# Altium footprint library SMA.PcbLib: 13 footprints
Each footprint in its own frame and in the unit in brackets; x right, y up, seen from the top. Pads: shape width x height; smd on the part's side, far side on the other; paste and mask are expansions set on the pad; w line width, h text height; cw(c..) or ccw(c..) is an arc to the next point about the centre after c.
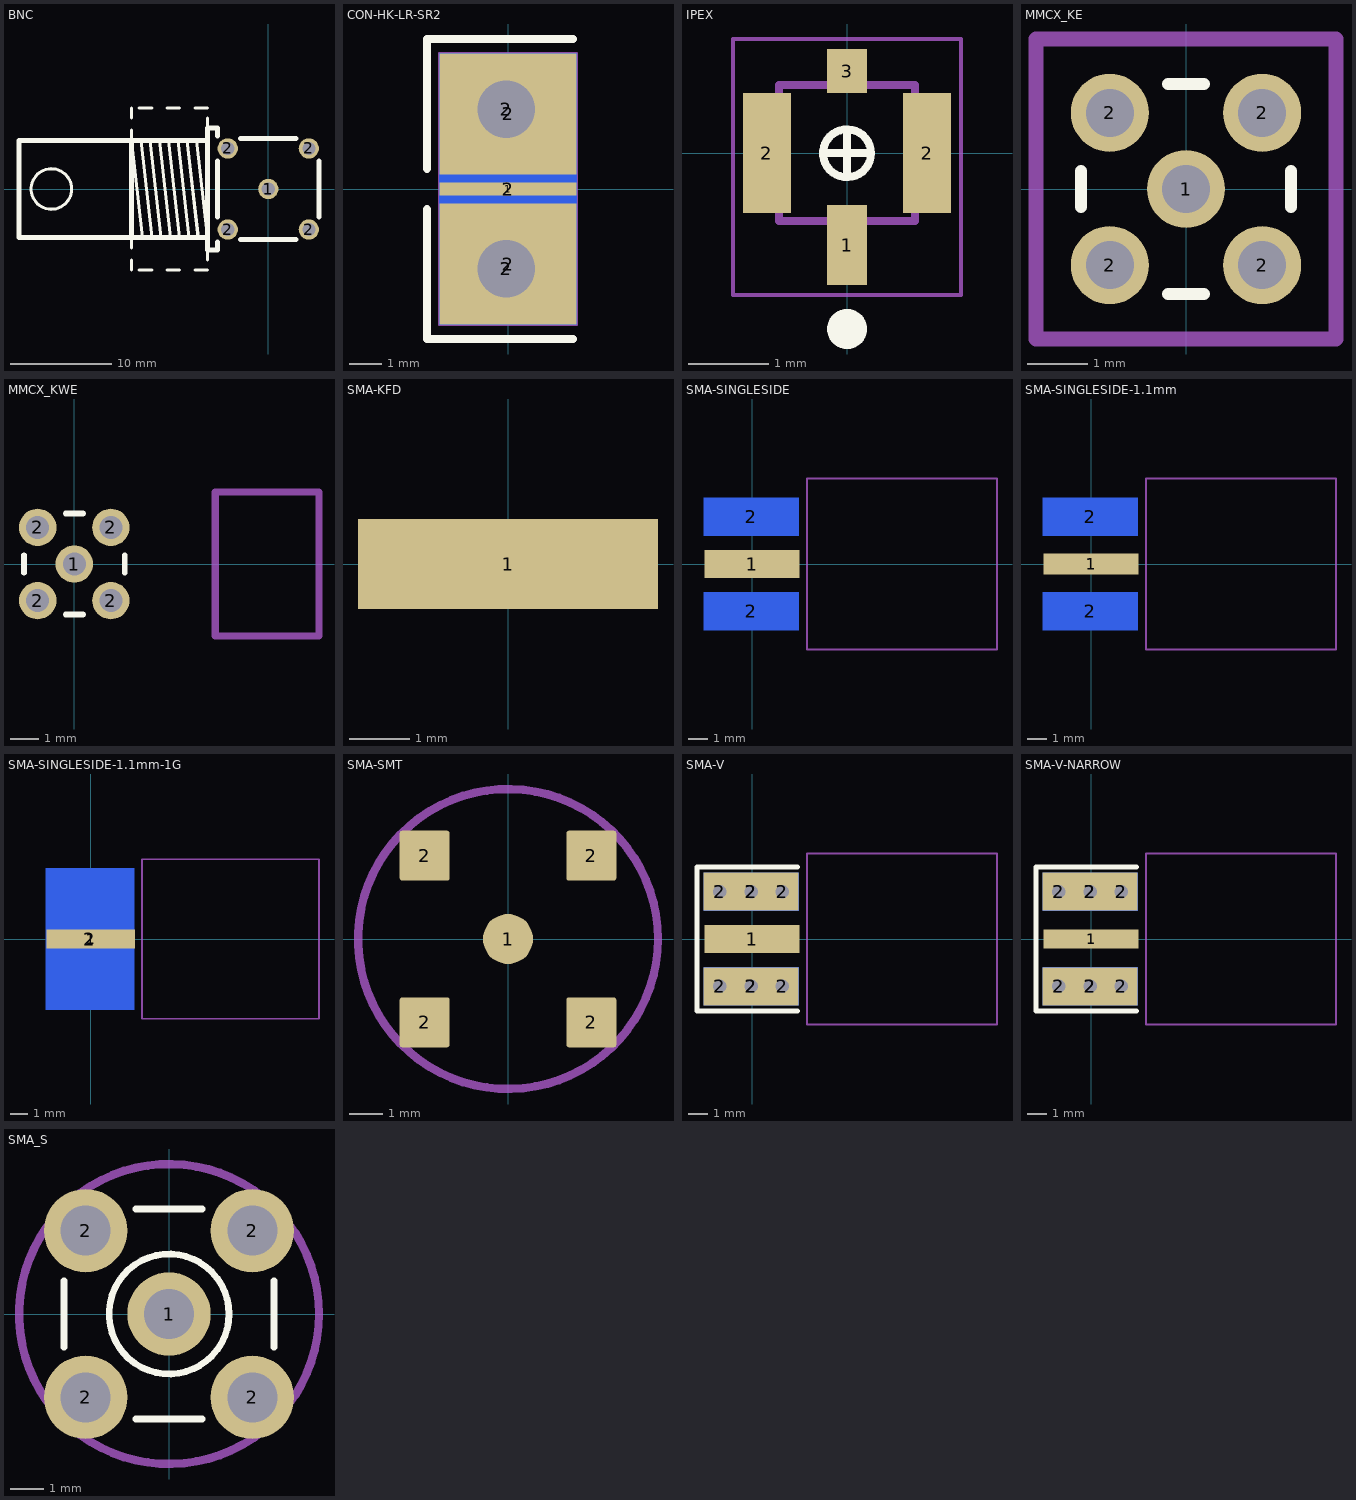
[diagram p0: the footprints below, top view; thin cyan lines are the x and y axes]

## BNC [mm] "Connector; BNC Elbow"
height 16
pads (5):
  round 2 hole 1.3: 1(0,0) 2(-4,-4) 2(-4,4) 2(4,-4) 2(4,4)
Top Overlay:
  circle w0.3: c-21.4,0 r2
  lines w0.3: -13.5,-8 -13.5,-7 ; -13.5,-5.8 -13.5,-4.8 ; -13.5,5.8 -13.5,4.8 -12.4,-4.8 ; -13.5,7 -13.5,8 ; -12.75,-8 -11.5,-8 ; -12.75,8 -11.5,8 ; -12.586,4.8 -11.486,-4.8 ; -11.671,4.8 -10.571,-4.8 ; -10.757,4.8 -9.657,-4.8 ; -10,-8 -8.75,-8 ; -10,8 -8.75,8 ; -9.843,4.8 -8.743,-4.8 ; -8.929,4.8 -7.829,-4.8 ; -8.014,4.8 -6.914,-4.8 ; -7.25,-8 -6,-8 ; -7.25,8 -6,8 ; -7.1,4.8 -6,-4.8 ; -6,-7 -6,-6 ; -6,6 -6,7
  lines w0.5: -13.5,-4.8 -13.5,4.8 ; -6,-4.8 -24.6,-4.8 -24.6,4.8 -6,4.8 ; -5,-5.25 -5,-6 -6,-6 -6,6 -5,6 -5,5.25 ; -5,-2.75 -5,2.75 ; -2.75,-5 2.75,-5 ; -2.75,5 2.75,5 ; 5,-2.75 5,2.75
3D body: height 0, standoff -4, extent -0.595,-0.599 0.6,0.599
3D body: height 0, standoff -4, extent 3.405,-4.599 4.6,-3.401
3D body: height 0, standoff -4, extent -4.595,-4.599 -3.4,-3.401
3D body: height 0, standoff -4, extent -4.595,3.401 -3.4,4.599
3D body: height 0, standoff -4, extent 3.405,3.401 4.6,4.599
3D body: height 13.2, standoff 1.2, extent -6,-6 -5,6
3D body: height 12, standoff 2.4, extent -24.6,-4.797 -5.1,4.797
3D body: height 12, standoff 0, extent -5,-5 5,5
3D body: height 12.7, standoff 1.7, extent -23.4,-2 -19.4,2

## CON-HK-LR-SR2 [mm]
pads (6):
  rect 4.3x0.406 smd: 1(0,0)
  round 1.8 hole 1.8: 2(-0.05,-2.5) 2(-0.05,2.5)
  rect 4.3x3.8 smd: 2(0,-2.35) 2(0,2.35)
  rect 4.3x8.5 smd far side: 2(0,0)
Top Overlay:
  lines w0.254: -2.54,-0.635 -2.54,-4.699 2.032,-4.699 ; -2.54,0.635 -2.54,4.699 2.032,4.699
Mechanical 13:
  lines w0.076: -2.15,-4.25 2.15,-4.25 2.15,4.25 -2.15,4.25 -2.15,-4.25

## IPEX [mm] "Hand Drawn, 4-Leads, Body 1.7x1.7mm"
height 0.85
pads (4):
  rect 0.5x1 smd: 1(0,-1.15)
  rect 0.6x1.5 smd: 2(-1,0) 2(1,0)
  rect 0.5x0.55 smd: 3(0,1.025)
Top Overlay:
  circle w0.1: c0,-0.003 r0.3
  circle w0.25: c0,-2.2 r0.125
  lines w0.1: -0.25,0 0.25,0 ; 0,-0.25 0,0.25
Mechanical 13:
  lines w0.1: -0.85,-0.85 0.85,-0.85 0.85,0.85 -0.85,0.85 -0.85,-0.85
Mechanical 15:
  lines w0.05: -1.425,-1.775 1.425,-1.775 1.425,1.425 -1.425,1.425 -1.425,-1.775
  lines w0.1: -0.25,0 0.25,0 ; 0,-0.25 0,0.25
3D body: height 0.85, standoff 0, extent -0.85,-0.85 0.85,0.85

## MMCX_KE [mm]
pads (5):
  round 1.3 hole 0.8: 1(0,0) 2(-1.27,-1.27) 2(-1.27,1.27) 2(1.27,-1.27) 2(1.27,1.27)
Top Overlay:
  lines w0.2: -1.75,-0.3 -1.75,0.3 ; -0.3,-1.75 0.3,-1.75 ; -0.3,1.75 0.3,1.75 ; 1.75,-0.3 1.75,0.3
Mechanical 13:
  lines w0.254: -2.5,-2.5 2.5,-2.5 2.5,2.5 -2.5,2.5 -2.5,-2.5
3D body: height 0, standoff -3, extent 1.02,-1.52 1.52,-1.02
3D body: height 0, standoff -3, extent -1.52,-1.52 -1.02,-1.02
3D body: height 0, standoff -3, extent 1.02,1.02 1.52,1.52
3D body: height 0, standoff -3, extent -0.25,-0.25 0.25,0.25
3D body: height 0, standoff -3, extent -1.52,1.02 -1.02,1.52
3D body: height 4.5, standoff 0.5, extent -1.75,-1.75 1.75,1.75
3D body: height 0.5, standoff 0, extent -1.75,-1.75 1.75,1.75

## MMCX_KWE [mm]
pads (5):
  round 1.3 hole 0.8: 1(0,0) 2(-1.27,-1.27) 2(-1.27,1.27) 2(1.27,-1.27) 2(1.27,1.27)
Top Overlay:
  lines w0.2: -1.75,-0.3 -1.75,0.3 ; -0.3,-1.75 0.3,-1.75 ; -0.3,1.75 0.3,1.75 ; 1.75,-0.3 1.75,0.3
Mechanical 13:
  lines w0.254: 4.9,-2.5 8.5,-2.5 8.5,2.5 4.9,2.5 4.9,-2.5
3D body: height 0, standoff -3, extent 1.02,-1.52 1.52,-1.02
3D body: height 0, standoff -3, extent -1.52,-1.52 -1.02,-1.02
3D body: height 0, standoff -3, extent 1.02,1.02 1.52,1.52
3D body: height 0, standoff -3, extent -0.25,-0.25 0.25,0.25
3D body: height 0, standoff -3, extent -1.52,1.02 -1.02,1.52
3D body: height 3.67, standoff 0.18, extent 1.75,-1.75 4.89,1.75
3D body: height 3.85, standoff 0, extent -1.75,-1.75 1.75,1.75

## SMA-KFD [mm]
pads (1):
  rect 5x1.5 smd: 1(0,0)

## SMA-SINGLESIDE [mm]
pads (3):
  rect 5x1.5 smd: 1(0,0)
  rect 5x2 smd far side: 2(-0.05,-2.5) 2(-0.05,2.5)
Bottom Overlay:
  lines w0.254: 2.4,-3.8 -2.9,-3.8 -2.9,3.8 2.4,3.8
Mechanical 13:
  lines w0.1: 2.9,-4.5 2.9,4.5 12.9,4.5 12.9,-4.5 2.9,-4.5
3D body: height 4.5, standoff -4.5, extent 2.9,-4.5 12.9,4.5

## SMA-SINGLESIDE-1.1mm [mm]
pads (3):
  rect 5x1.1 smd: 1(0,0)
  rect 5x2 smd far side: 2(-0.05,-2.5) 2(-0.05,2.5)
Bottom Overlay:
  lines w0.254: 2.4,-3.8 -2.9,-3.8 -2.9,3.8 2.4,3.8
Mechanical 13:
  lines w0.1: 2.9,-4.5 2.9,4.5 12.9,4.5 12.9,-4.5 2.9,-4.5
3D body: height 4.5, standoff -4.5, extent 2.9,-4.5 12.9,4.5

## SMA-SINGLESIDE-1.1mm-1G [mm]
pads (2):
  rect 5x1.1 smd: 1(0,0)
  rect 5x8 smd far side: 2(-0.05,0)
Bottom Overlay:
  lines w0.254: 2.4,-4.3 -2.9,-4.3 -2.9,4.3 2.4,4.3
Mechanical 13:
  lines w0.1: 2.9,-4.5 2.9,4.5 12.9,4.5 12.9,-4.5 2.9,-4.5
3D body: height 4.5, standoff -4.5, extent 2.9,-4.5 12.9,4.5

## SMA-SMT [mm]
pads (5):
  round 1.5 smd: 1(0,0)
  rrect10% 1.5x1.5 smd: 2(-2.5,-2.5) 2(-2.5,2.5) 2(2.5,-2.5) 2(2.5,2.5)
Mechanical 13:
  circle w0.254: c0,0 r4.5

## SMA-V [mm]
pads (11):
  rect 5x1.5 smd: 1(0,0)
  round 1.27 hole 0.711: 2(-1.7,-2.5) 2(-1.7,2.5) 2(-0.05,-2.5) 2(-0.05,2.5) 2(1.6,-2.5) 2(1.6,2.5)
  rect 5x2 smd: 2(-0.05,-2.5) 2(-0.05,2.5)
  rect 5x2 smd far side: 2(-0.05,-2.5) 2(-0.05,2.5)
Top Overlay:
  lines w0.254: 2.4,-3.8 -2.9,-3.8 -2.9,3.8 2.4,3.8
Bottom Overlay:
  lines w0.254: 2.4,-3.8 -2.9,-3.8 -2.9,3.8 2.4,3.8
Mechanical 13:
  lines w0.1: 2.9,-4.5 2.9,4.5 12.9,4.5 12.9,-4.5 2.9,-4.5
3D body: height 4.5, standoff -4.5, extent 2.9,-4.5 12.9,4.5

## SMA-V-NARROW [mm]
pads (11):
  rect 5x1 smd: 1(0,0)
  round 1.27 hole 0.711: 2(-1.7,-2.5) 2(-1.7,2.5) 2(-0.05,-2.5) 2(-0.05,2.5) 2(1.6,-2.5) 2(1.6,2.5)
  rect 5x2 smd: 2(-0.05,-2.5) 2(-0.05,2.5)
  rect 5x2 smd far side: 2(-0.05,-2.5) 2(-0.05,2.5)
Top Overlay:
  lines w0.254: 2.4,-3.8 -2.9,-3.8 -2.9,3.8 2.4,3.8
Bottom Overlay:
  lines w0.254: 2.4,-3.8 -2.9,-3.8 -2.9,3.8 2.4,3.8
Mechanical 13:
  lines w0.1: 2.9,-4.5 12.9,-4.5 12.9,4.5 2.9,4.5 2.9,-4.5
3D body: height 4.5, standoff -4.5, extent 2.9,-4.5 12.9,4.5

## SMA_S [mm]
pads (5):
  round 2.5 hole 1.5: 1(0,0) 2(-2.5,-2.5) 2(-2.5,2.5) 2(2.5,-2.5) 2(2.5,2.5)
Top Overlay:
  circle w0.2: c0,0 r1.8
  lines w0.2: -3.15,-1 -3.15,1 ; -1,-3.15 1,-3.15 ; -1,3.15 1,3.15 ; 3.15,-1 3.15,1
Mechanical 13:
  circle w0.025: c0,0 r0.2
  circle w0.025: c0,0 r1.05
  circle w0.025: c0,0 r1.8
  circle w0.254: c0,0 r4.5